# Altium footprint library CCD_CAM_BOARD_PCB_v3.PcbLib: 39 footprints (part 2 of 3)
Each footprint in its own frame and in the unit in brackets; x right, y up, seen from the top. Pads: shape width x height; smd on the part's side, far side on the other; paste and mask are expansions set on the pad; w line width, h text height; cw(c..) or ccw(c..) is an arc to the next point about the centre after c.
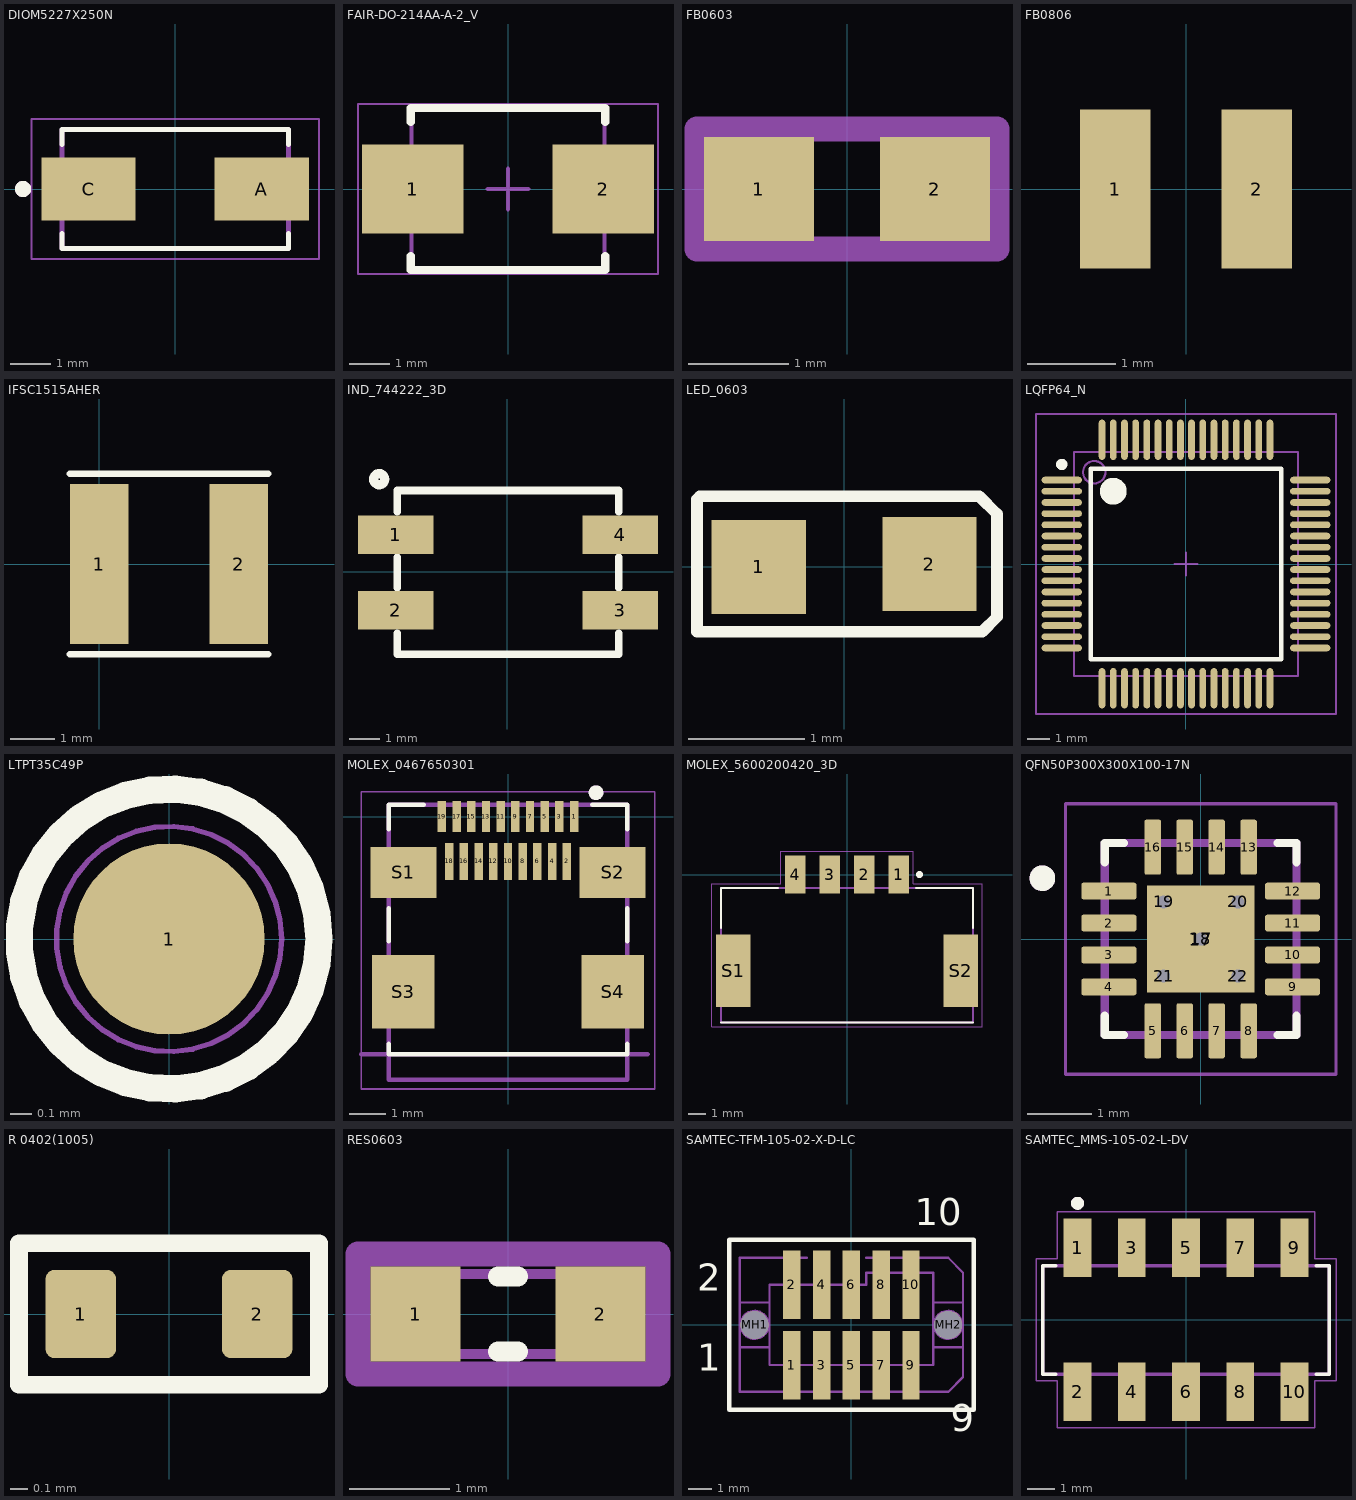
[diagram p1: the footprints below, top view; thin cyan lines are the x and y axes]

## DIOM5227X250N [mm]
pads (2):
  rect 2.33x1.56 smd: A(2.14,0) C(-2.14,0)
Top Overlay:
  circle w0.2: c-3.76,0 r0.1
  lines w0.127: -2.8,-1.1 -2.8,-1.475 2.8,-1.475 2.8,-1.1 ; -2.8,1.1 -2.8,1.475 2.8,1.475 2.8,1.1
Mechanical 13:
  circle w0.2: c-3.76,0 r0.1
  lines w0.127: -2.8,-1.475 -2.8,1.475 2.8,1.475 2.8,-1.475 -2.8,-1.475
Mechanical 15:
  lines w0.05: -3.555,-1.725 3.555,-1.725 3.555,1.725 -3.555,1.725 -3.555,-1.725

## FAIR-DO-214AA-A-2_V [mm] "Molded Diode, 2-Leads, Body 4.75x3.95mm"
height 2.65
pads (2):
  rect 2.5x2.2 smd: 1(-2.35,0) 2(2.35,0)
Top Overlay:
  lines w0.2: -2.4,-1.65 -2.4,-2 2.4,-2 2.4,-1.65 ; -2.4,1.65 -2.4,2 2.4,2 2.4,1.65
Mechanical 13:
  lines w0.1: -2.375,-1.975 -2.375,1.975 2.375,1.975 2.375,-1.975 -2.375,-1.975
Mechanical 15:
  lines w0.05: -3.7,-2.1 -3.7,2.1 3.7,2.1 3.7,-2.1 -3.7,-2.1
  lines w0.1: -0.5,0 0.5,0 ; 0,-0.5 0,0.5
3D body "DIOM4436X26L.step": height 2.65, standoff 0, extent -2.595,-1.975 2.595,1.975

## FB0603 [mm] "0.063\" L x 0.031\" W (1.60mm x 0.80mm)"
height 0.8
pads (2):
  rect 1.1x1.04 smd: 1(-0.88,0) 2(0.88,0)
Top Designator:
  lines w0.254: -1.5,-0.6 1.5,-0.6 1.5,0.6 -1.5,0.6 -1.5,-0.6
  text ".Designator" at -3.809,-0.254 h0.76
3D body "FB0603.step": height 0.8, standoff 0, extent -0.8,-0.4 0.8,0.4

## FB0806 [mm]
pads (2):
  rect 0.8x1.8 smd: 1(-0.8,0) 2(0.8,0)
3D body: height 1.3, standoff 0, extent -1.2,-0.889 1.2,0.889

## IFSC1515AHER [mil] "IFSC1515AHER"
height 43.31
pads (2):
  rect 52x142 smd: 1(0,0) 2(124,0)
Top Overlay:
  lines w6: -26,-80 150,-80 ; -26,80 150,80
3D body "User Library-IFSC-1515AH.STEP": height 70.87, standoff 0, extent -17.75,-77.75 137.76,77.76

## IND_744222_3D [mm]
height 9.9
pads (4):
  rect 2.489x1.27 smd: 1(-3.675,1.225) 2(-3.675,-1.275) 3(3.725,-1.275) 4(3.725,1.225)
Top Overlay:
  circle w0.3: c-4.222,3.048 r0.183
  lines w0.25: -3.625,-2.025 -3.625,-2.725 3.675,-2.725 3.675,-2.025 ; -3.625,-0.525 -3.625,0.475 ; -3.625,1.975 -3.625,2.675 3.675,2.675 3.675,1.975 ; 3.675,-0.525 3.675,0.475
3D body "744220_Download_STP_WE-SL2_rev1.stp": height 5, standoff 0, extent -4.6,-3 4.6,3

## LED_0603 [mil] "LED_0603"
height 43.31
pads (2):
  rect 32x32 smd: 1(-29,0) 2(29,1)
Top Overlay:
  lines w3.94: -50,-22 47,-22 52,-17 52,18 46,24 -49,24 -50,23 -50,-22

## LQFP64_N [mm] "Thin QFP, 64-Leads, Body 10x10mm, Pitch 0.5mm, IPC Medium Density"
height 1.6
pads (64):
  oval 1.8x0.3 smd: 1(-5.55,3.75) 2(-5.55,3.25) 3(-5.55,2.75) 4(-5.55,2.25) 5(-5.55,1.75) 6(-5.55,1.25) 7(-5.55,0.75) 8(-5.55,0.25) 9(-5.55,-0.25) 10(-5.55,-0.75) 11(-5.55,-1.25) 12(-5.55,-1.75) 13(-5.55,-2.25) 14(-5.55,-2.75) 15(-5.55,-3.25) 16(-5.55,-3.75) 33(5.55,-3.75) 34(5.55,-3.25) 35(5.55,-2.75) 36(5.55,-2.25) 37(5.55,-1.75) 38(5.55,-1.25) 39(5.55,-0.75) 40(5.55,-0.25) 41(5.55,0.25) 42(5.55,0.75) 43(5.55,1.25) 44(5.55,1.75) 45(5.55,2.25) 46(5.55,2.75) 47(5.55,3.25) 48(5.55,3.75)
  oval 0.3x1.8 smd: 17(-3.75,-5.55) 18(-3.25,-5.55) 19(-2.75,-5.55) 20(-2.25,-5.55) 21(-1.75,-5.55) 22(-1.25,-5.55) 23(-0.75,-5.55) 24(-0.25,-5.55) 25(0.25,-5.55) 26(0.75,-5.55) 27(1.25,-5.55) 28(1.75,-5.55) 29(2.25,-5.55) 30(2.75,-5.55) 31(3.25,-5.55) 32(3.75,-5.55) 49(3.75,5.55) 50(3.25,5.55) 51(2.75,5.55) 52(2.25,5.55) 53(1.75,5.55) 54(1.25,5.55) 55(0.75,5.55) 56(0.25,5.55) 57(-0.25,5.55) 58(-0.75,5.55) 59(-1.25,5.55) 60(-1.75,5.55) 61(-2.25,5.55) 62(-2.75,5.55) 63(-3.25,5.55) 64(-3.75,5.55)
Top Overlay:
  circle w0.6: c-3.25,3.25 r0.3
  circle w0.25: c-5.55,4.45 r0.125
  lines w0.2: -4.25,-4.25 4.25,-4.25 4.25,4.25 -4.25,4.25 -4.25,-4.25
Mechanical 13:
  circle w0.1: c-4.1,4.1 r0.5
  lines w0.1: -5,-5 5,-5 5,5 -5,5 -5,-5
Mechanical 15:
  lines w0.1: -0.5,0 0.5,0 ; 0,-0.5 0,0.5 ; -6.7,-6.7 6.7,-6.7 6.7,6.7 -6.7,6.7 -6.7,-6.7
3D body: height 1.6, standoff 0, extent -5,-5 5,5

## LTPT35C49P [mm] "LTPT35C49P"
height 2.3
pads (1):
  round 0.89 smd: 1(0,0)
Top Overlay:
  circle w0.127: c0,0 r0.698
Mechanical46:
  text "1" at 0,0.08 h0.2
Mechanical78:
  circle w0.025: c0,0 r0.524

## MOLEX_0467650301 [mm]
height 9.9
pads (23):
  rect 0.23x0.85 smd: 1(1.8,0) 3(1.4,0) 5(1,0) 7(0.6,0) 9(0.2,0) 11(-0.2,0) 13(-0.6,0) 15(-1,0) 17(-1.4,0) 19(-1.8,0)
  rect 0.23x1 smd: 2(1.6,-1.225) 4(1.2,-1.225) 6(0.8,-1.225) 8(0.4,-1.225) 10(0,-1.225) 12(-0.4,-1.225) 14(-0.8,-1.225) 16(-1.2,-1.225) 18(-1.6,-1.225)
  rect 1.8x1.38 smd: S1(-2.85,-1.524) S2(2.85,-1.524)
  rect 1.7x2 smd: S3(-2.85,-4.775) S4(2.85,-4.775)
Top Overlay:
  circle w0.2: c2.4,0.65 r0.1
  lines w0.127: -3.25,-6.2 -3.25,-6.475 3.25,-6.475 3.25,-6.2 ; -3.25,-3.4 -3.25,-2.5 ; -3.25,-0.35 -3.25,0.325 -2.3,0.325 ; 2.3,0.325 3.25,0.325 3.25,-0.35 ; 3.25,-3.4 3.25,-2.5
Mechanical 13:
  circle w0.2: c2.4,0.65 r0.1
  lines w0.127: -4,-6.475 3.8,-6.475 ; -3.25,-7.175 3.25,-7.175 3.25,0.325 -3.25,0.325 -3.25,-7.175
  text "PCB EDGE" at 2.032,-6.731 h0.13
Mechanical 15:
  lines w0.05: -4,-7.425 4,-7.425 4,0.675 -4,0.675 -4,-7.425
3D body "467650301.stp": height 2.92, standoff -0.05, extent -3.25,-7.373 3.25,0.127

## MOLEX_5600200420_3D [mm]
pads (6):
  rect 1.2x2.2 smd: 1(3,0) 2(1,0) 3(-1,0) 4(-3,0)
  rect 2x4.2 smd: S1(-6.6,-5.58) S2(6.6,-5.58)
Top Overlay:
  circle w0.2: c4.2,0 r0.1
  lines w0.127: -7.3,-8.58 7.3,-8.58 ; -7.3,-3.1 -7.3,-0.78 -4,-0.78 ; 4,-0.78 7.3,-0.78 7.3,-3.1
Mechanical 13:
  circle w0.2: c4.2,0 r0.1
  lines w0.127: -7.3,-8.58 7.3,-8.58 7.3,-0.78 -7.3,-0.78 -7.3,-8.58
Mechanical 15:
  lines w0.05: -7.85,-8.83 7.85,-8.83 7.85,-0.53 3.85,-0.53 3.85,1.35 -3.85,1.35 -3.85,-0.53 -7.85,-0.53 -7.85,-8.83
3D body "5600200420.stp": height 8, standoff 0, extent -7.3,-8.67 7.3,0.48

## QFN50P300X300X100-17N [mm]
pads (22):
  rrect25% 0.86x0.26 smd: 1(-1.435,0.75) 2(-1.435,0.25) 3(-1.435,-0.25) 4(-1.435,-0.75) 9(1.435,-0.75) 10(1.435,-0.25) 11(1.435,0.25) 12(1.435,0.75)
  rrect25% 0.26x0.86 smd: 5(-0.75,-1.435) 6(-0.25,-1.435) 7(0.25,-1.435) 8(0.75,-1.435) 13(0.75,1.435) 14(0.25,1.435) 15(-0.25,1.435) 16(-0.75,1.435)
  rect 1.68x1.68 smd paste-2: 17(0,0)
  round 0.4 hole 0.2 mask+0: 18(0,0) 19(-0.58,0.58) 20(0.58,0.58) 21(-0.58,-0.58) 22(0.58,-0.58)
Top Overlay:
  circle w0.2: c-2.475,0.95 r0.1
  lines w0.127: -1.5,-1.2 -1.5,-1.5 -1.2,-1.5 ; -1.5,1.2 -1.5,1.5 -1.2,1.5 ; 1.2,-1.5 1.5,-1.5 1.5,-1.2 ; 1.2,1.5 1.5,1.5 1.5,1.2
Top Paste:
  region: 0.53,-0.53 -0.53,-0.53 -0.53,0.53 0.53,0.53
Mechanical 13:
  circle w0.2: c-2.475,0.95 r0.1
  lines w0.127: -1.5,-1.5 -1.5,1.5 1.5,1.5 1.5,-1.5 -1.5,-1.5
Mechanical 15:
  lines w0.05: -2.115,-2.115 -2.115,2.115 2.115,2.115 2.115,-2.115 -2.115,-2.115
3D body "step_temp.STEP": height 1, standoff 0, extent -1.5,-1.5 1.5,1.5

## R 0402(1005) [mm]
height 0.35
pads (2):
  rrect25% 0.4x0.5 smd mask+0.102: 1(-0.5,0) 2(0.5,0)
Top Overlay:
  lines w0.1: -0.85,-0.4 0.85,-0.4 0.85,0.4 -0.85,0.4 -0.85,-0.4
3D body "SMD R-0402.STEP": height 0.35, standoff 0, extent -0.5,-0.25 0.5,0.25

## RES0603 [mm] "RESISTOR 0603"
height 0.5
pads (2):
  rect 0.9x0.95 smd: 1(-0.925,0) 2(0.925,0)
Top Overlay:
  lines w0.2: -0.1,-0.375 0.1,-0.375 ; -0.1,0.375 0.1,0.375
Top Designator:
  lines w0.254: -1.5,-0.6 1.5,-0.6 1.5,0.6 -1.5,0.6 -1.5,-0.6
  text ".Designator" at -3.174,-0.212 h0.64
Top 3D Body:
  lines w0.1: -0.8,-0.4 0.8,-0.4 0.8,0.4 -0.8,0.4 -0.8,-0.4
3D body "RES0603.step": height 0.5, standoff 0, extent -0.8,-0.4 0.8,0.4

## SAMTEC-TFM-105-02-X-D-LC [mm]
height 9.9
pads (12):
  rect 0.74x2.92 smd: 1(-2.54,-1.714) 2(-2.54,1.714) 3(-1.27,-1.714) 4(-1.27,1.714) 5(0,-1.714) 6(0,1.714) 7(1.27,-1.714) 8(1.27,1.714) 9(2.54,-1.714) 10(2.54,1.714)
  round 1.19 hole 1.19: MH1(-4.128,0) MH2(4.128,0)
Top Overlay:
  lines w0.2: -5.213,-3.625 5.213,-3.625 5.213,3.625 -5.213,3.625 -5.213,-3.625
  text "10" at 2.692,3.873 h1.97
  text "9" at 4.242,-4.915 h1.97
  text "2" at -6.583,1.08 h1.97
  text "1" at -6.583,-2.35 h1.97
Top Paste:
  rectangle: 2.17,0.254 2.91,3.174
  rectangle: 2.17,-3.174 2.91,-0.254
  rectangle: 0.9,0.254 1.64,3.174
  rectangle: 0.9,-3.174 1.64,-0.254
  rectangle: -0.37,0.254 0.37,3.174
  rectangle: -0.37,-3.174 0.37,-0.254
  rectangle: -1.64,0.254 -0.9,3.174
  rectangle: -1.64,-3.174 -0.9,-0.254
  rectangle: -2.91,0.254 -2.17,3.174
  rectangle: -2.91,-3.174 -2.17,-0.254
Top Solder:
  circle w0: c-4.128,0 r0.646
  circle w0: c4.128,0 r0.646
  rectangle: 2.119,0.203 2.961,3.225
  rectangle: 2.119,-3.225 2.961,-0.203
  rectangle: 0.849,0.203 1.691,3.225
  rectangle: 0.849,-3.225 1.691,-0.203
  rectangle: -0.421,0.203 0.421,3.225
  rectangle: -0.421,-3.225 0.421,-0.203
  rectangle: -1.691,0.203 -0.849,3.225
  rectangle: -1.691,-3.225 -0.849,-0.203
  rectangle: -2.961,0.203 -2.119,3.225
  rectangle: -2.961,-3.225 -2.119,-0.203
Bottom Solder:
  circle w0: c-4.128,0 r0.646
  circle w0: c4.128,0 r0.646
Mechanical 16:
  circle w0.1: c4.127,0 r0.596
  circle w0.1: c2.54,0.635 r0.229
  circle w0.1: c2.54,-0.635 r0.229
  circle w0.1: c1.27,-0.635 r0.229
  circle w0.1: c1.27,0.635 r0.229
  circle w0.1: c0,0.635 r0.229
  circle w0.1: c0,-0.635 r0.229
  circle w0.1: c-1.27,0.635 r0.229
  circle w0.1: c-1.27,-0.635 r0.229
  circle w0.1: c-2.54,0.635 r0.229
  circle w0.1: c-4.127,0 r0.596
  circle w0.1: c-2.54,-0.635 r0.229
  lines w0.1: -4.762,-0.952 -3.492,-0.952 ; -4.762,0.952 -3.492,0.952 ; -2.718,-2.984 -2.362,-2.984 -2.362,-2.858 ; -2.718,2.984 -2.362,2.984 ; -1.905,2.858 -4.762,2.858 -4.762,-2.858 -1.905,-2.858 -0.635,-2.858 0.635,-2.858 1.905,-2.858 4.128,-2.858 4.762,-2.222 4.762,2.222 4.128,2.858 0.635,2.858 ; -1.448,-2.858 -1.448,-2.984 -1.092,-2.984 -1.092,-2.858 ; -0.178,-2.858 -0.178,-2.984 0.178,-2.984 0.178,-2.858 ; 1.092,-2.858 1.092,-2.984 1.448,-2.984 1.448,-2.858 ; 2.362,-2.858 2.362,-2.984 2.718,-2.984 2.718,-2.858 ; 3.492,-0.952 4.762,-0.952 ; 3.492,0.952 4.762,0.952 ; -3.492,-1.714 -3.492,1.714 -1.905,1.714 -0.635,1.714 0.635,1.714 0.635,2.222 3.492,2.222 3.492,-1.714 1.905,-1.714 0.635,-1.714 -0.635,-1.714 -1.905,-1.714 -3.492,-1.714
  text "2" at -6.583,1.08 h1.97
  text "1" at -6.583,-2.35 h1.97
Mechanical 30:
  circle w0.1: c4.127,0 r0.596
  circle w0.1: c-4.127,0 r0.596

## SAMTEC_MMS-105-02-L-DV [mm]
height 9.9
pads (10):
  rect 1.02x2.16 smd: 1(-4,2.655) 2(-4,-2.655) 3(-2,2.655) 4(-2,-2.655) 5(0,2.655) 6(0,-2.655) 7(2,2.655) 8(2,-2.655) 9(4,2.655) 10(4,-2.655)
Top Overlay:
  circle w0.24: c-4,4.3 r0.12
  lines w0.127: -4.8,-2 -5.28,-2 -5.28,2 -4.8,2 ; 4.8,-2 5.28,-2 5.28,2 4.8,2
Mechanical 13:
  circle w0.24: c-4,4.3 r0.12
  lines w0.127: -5.28,-2 -5.28,2 5.28,2 5.28,-2 -5.28,-2
Mechanical 15:
  lines w0.05: -5.53,-2.25 -5.53,2.25 -4.75,2.25 -4.75,3.985 4.75,3.985 4.75,2.25 5.53,2.25 5.53,-2.25 4.75,-2.25 4.75,-3.985 -4.75,-3.985 -4.75,-2.25 -5.53,-2.25
3D body "MMS-105-02-L-DV-K.stp": height 4.57, standoff -0.05, extent -5.277,-3.218 5.277,3.218